# Altium schematic symbol library PWR_HDR_6P.SchLib: 1 symbol
Pins are listed as number, name and electrical type; pins without a type are passive.

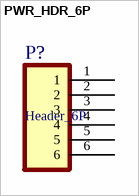
[diagram p0: symbol PWR_HDR_6P]

## PWR_HDR_6P
designator P?, comment Header_6P
pins: 1, 2, 3, 4, 5, 6